# Altium footprint library TC0203620000G.PcbLib: 1 footprints
Each footprint in its own frame and in the unit in brackets; x right, y up, seen from the top. Pads: shape width x height; smd on the part's side, far side on the other; paste and mask are expansions set on the pad; w line width, h text height; cw(c..) or ccw(c..) is an arc to the next point about the centre after c.
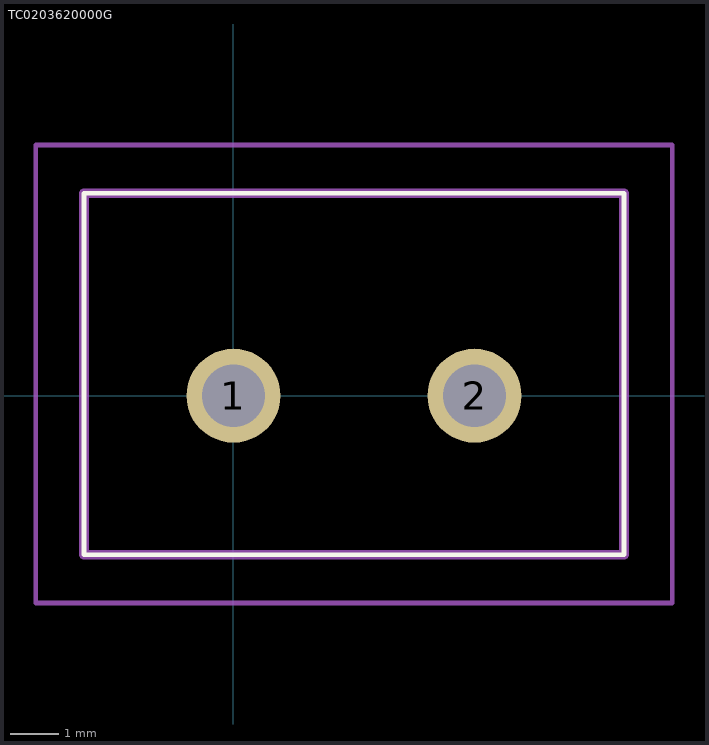
[diagram p0: the footprint, top view; thin cyan lines are the x and y axes]

## TC0203620000G [mm]
pads (2):
  round 1.95 hole 1.3: 1(0,0) 2(5,0)
Top Overlay:
  lines w0.1: -3.1,-3.3 8.1,-3.3 8.1,4.2 -3.1,4.2 -3.1,-3.3
Mechanical 15:
  lines w0.2: -3.1,-3.3 8.1,-3.3 8.1,4.2 -3.1,4.2 -3.1,-3.3
Mechanical 20:
  lines w0.1: -4.1,-4.3 9.1,-4.3 9.1,5.2 -4.1,5.2 -4.1,-4.3
3D body "TC0203620000G.stp": height 5.8, standoff -4.65, extent -10,-3.376 10,3.376